# EAGLE library part SLG46585M (library GREENPAK)
GreenPAK6 SLG46585 Silego Technology www.silego.com Features • Programmable Asynchronous State Machine • Logic & Mixed Signal Circuits • Highly Versatile Macro Cells • Read Back Protection (Read Lock) • Four 150 mA LDO Regulators • I2C Interface • 2.5 V (±8%) to 5 V (±10%) Supply • Operating Temperature Range: -40°C to 85°C • RoHS Compliant / Halogen-Free • 29-pin MSTQFN: 3 x 3 x 0.55 mm, 0.4 mm pitch
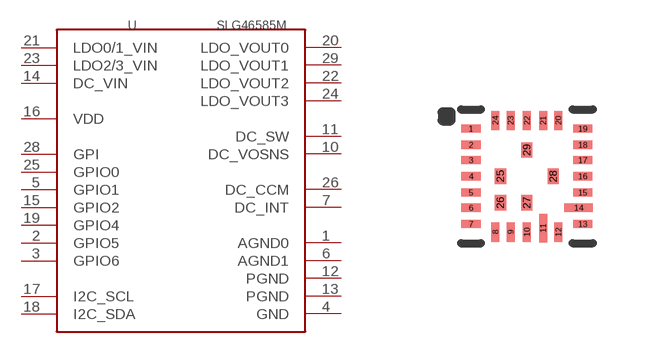
[diagram p38: symbol with the pads of MSTQFN-29L-3.0X3.0; footprint MSTQFN-29L-3.0X3.0]

Designator prefix -

## SLG46585M  [MSTQFN-29L-3.0X3.0]
1  AGND0
2  GPIO5
3  GPIO6
4  GND
5  GPIO1
6  AGND1
7  DC_INT
10  DC_VOSNS
11  DC_SW
12  PGND
13  PGND
14  DC_VIN  pwr
15  GPIO2
16  VDD  pwr
17  I2C_SCL
18  I2C_SDA
19  GPIO4
20  LDO_VOUT0
21  LDO0/1_VIN  pwr
22  LDO_VOUT2
23  LDO2/3_VIN  pwr
24  LDO_VOUT3
25  GPIO0
26  DC_CCM
28  GPI  in
29  LDO_VOUT1

## Footprint MSTQFN-29L-3.0X3.0 (pad centres in mm)
smd 0.483 x 0.203: 1 -1.397,1.194; 2 -1.397,0.787; 3 -1.397,0.406; 4 -1.397,0; 5 -1.397,-0.406; 6 -1.397,-0.787; 7 -1.397,-1.194; 13 1.397,-1.194; 15 1.397,-0.406; 16 1.397,0; 17 1.397,0.406; 18 1.397,0.787; 19 1.397,1.194
smd 0.203 x 0.483: 8 -0.787,-1.397; 9 -0.406,-1.397; 10 0,-1.397; 12 0.787,-1.397; 20 0.787,1.397; 21 0.406,1.397; 22 0,1.397; 23 -0.406,1.397; 24 -0.787,1.397
smd 0.203 x 0.711: 11 0.406,-1.295
smd 0.711 x 0.203: 14 1.295,-0.787
smd 0.279 x 0.381: 25 -0.66,0; 26 -0.66,-0.66; 27 0,-0.66; 28 0.66,0; 29 0,0.66